# EAGLE library part TUSB7340 (library TUSB)
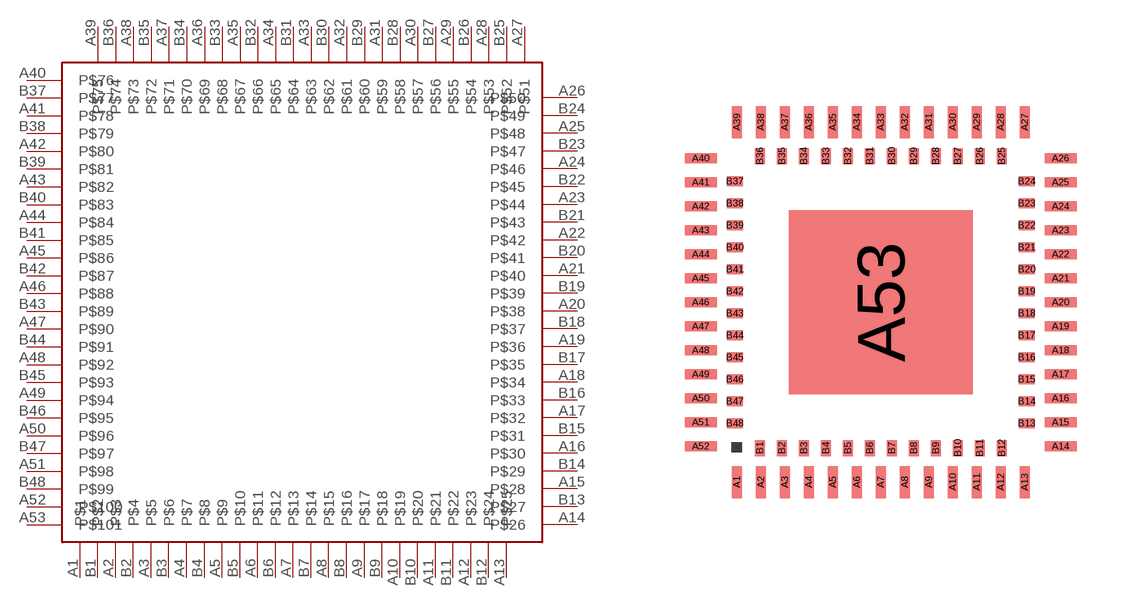
[diagram p0: symbol with the pads of TUSB7340; footprint TUSB7340]

Designator prefix -

## TUSB7340  [TUSB7340]
A1  P$1
A2  P$3
A3  P$5
A4  P$7
A5  P$9
A6  P$11
A7  P$13
A8  P$15
A9  P$17
A10  P$19
A11  P$21
A12  P$23
A13  P$25
A14  P$26
A15  P$28
A16  P$30
A17  P$32
A18  P$34
A19  P$36
A20  P$38
A21  P$40
A22  P$42
A23  P$44
A24  P$46
A25  P$48
A26  P$50
A27  P$51
A28  P$53
A29  P$55
A30  P$57
A31  P$59
A32  P$61
A33  P$63
A34  P$65
A35  P$67
A36  P$69
A37  P$71
A38  P$73
A39  P$75
A40  P$76
A41  P$78
A42  P$80
A43  P$82
A44  P$84
A45  P$86
A46  P$88
A47  P$90
A48  P$92
A49  P$94
A50  P$96
A51  P$98
A52  P$100
A53  P$101
B1  P$2
B2  P$4
B3  P$6
B4  P$8
B5  P$10
B6  P$12
B7  P$14
B8  P$16
B9  P$18
B10  P$20
B11  P$22
B12  P$24
B13  P$27
B14  P$29
B15  P$31
B16  P$33
B17  P$35
B18  P$37
B19  P$39
B20  P$41
B21  P$43
B22  P$45
B23  P$47
B24  P$49
B25  P$52
B26  P$54
B27  P$56
B28  P$58
B29  P$60
B30  P$62
B31  P$64
B32  P$66
B33  P$68
B34  P$70
B35  P$72
B36  P$74
B37  P$77
B38  P$79
B39  P$81
B40  P$83
B41  P$85
B42  P$87
B43  P$89
B44  P$91
B45  P$93
B46  P$95
B47  P$97
B48  P$99

## Footprint TUSB7340 (pad centres in mm)
smd 0.25 x 0.8: A1 -3.6,-4.5; A2 -3,-4.5; A3 -2.4,-4.5; A4 -1.8,-4.5; A5 -1.2,-4.5; A6 -0.6,-4.5; A7 0,-4.5; A8 0.6,-4.5; A9 1.2,-4.5; A10 1.8,-4.5; A11 2.4,-4.5; A12 3,-4.5; A13 3.6,-4.5; A27 3.6,4.5; A28 3,4.5; A29 2.4,4.5; A30 1.8,4.5; A31 1.2,4.5; A32 0.6,4.5; A33 0,4.5; A34 -0.6,4.5; A35 -1.2,4.5; A36 -1.8,4.5; A37 -2.4,4.5; A38 -3,4.5; A39 -3.6,4.5
smd 0.8 x 0.25: A14 4.5,-3.6; A15 4.5,-3; A16 4.5,-2.4; A17 4.5,-1.8; A18 4.5,-1.2; A19 4.5,-0.6; A20 4.5,0; A21 4.5,0.6; A22 4.5,1.2; A23 4.5,1.8; A24 4.5,2.4; A25 4.5,3; A26 4.5,3.6; A40 -4.5,3.6; A41 -4.5,3; A42 -4.5,2.4; A43 -4.5,1.8; A44 -4.5,1.2; A45 -4.5,0.6; A46 -4.5,0; A47 -4.5,-0.6; A48 -4.5,-1.2; A49 -4.5,-1.8; A50 -4.5,-2.4; A51 -4.5,-3; A52 -4.5,-3.6
smd 4.6 x 4.6: A53 0,0
smd 0.25 x 0.4: B1 -3.025,-3.65; B2 -2.475,-3.65; B3 -1.925,-3.65; B4 -1.375,-3.65; B5 -0.825,-3.65; B6 -0.275,-3.65; B7 0.275,-3.65; B8 0.825,-3.65; B9 1.375,-3.65; B10 1.925,-3.65; B11 2.475,-3.65; B12 3.025,-3.65; B25 3.025,3.65; B26 2.475,3.65; B27 1.925,3.65; B28 1.375,3.65; B29 0.825,3.65; B30 0.275,3.65; B31 -0.275,3.65; B32 -0.825,3.65; B33 -1.375,3.65; B34 -1.925,3.65; B35 -2.475,3.65; B36 -3.025,3.65
smd 0.4 x 0.25: B13 3.65,-3.025; B14 3.65,-2.475; B15 3.65,-1.925; B16 3.65,-1.375; B17 3.65,-0.825; B18 3.65,-0.275; B19 3.65,0.275; B20 3.65,0.825; B21 3.65,1.375; B22 3.65,1.925; B23 3.65,2.475; B24 3.65,3.025; B37 -3.65,3.025; B38 -3.65,2.475; B39 -3.65,1.925; B40 -3.65,1.375; B41 -3.65,0.825; B42 -3.65,0.275; B43 -3.65,-0.275; B44 -3.65,-0.825; B45 -3.65,-1.375; B46 -3.65,-1.925; B47 -3.65,-2.475; B48 -3.65,-3.025